# Altium footprint library Flanery.PcbLib: 125 footprints (part 5 of 8)
Each footprint in its own frame and in the unit in brackets; x right, y up, seen from the top. Pads: shape width x height; smd on the part's side, far side on the other; paste and mask are expansions set on the pad; w line width, h text height; cw(c..) or ccw(c..) is an arc to the next point about the centre after c.
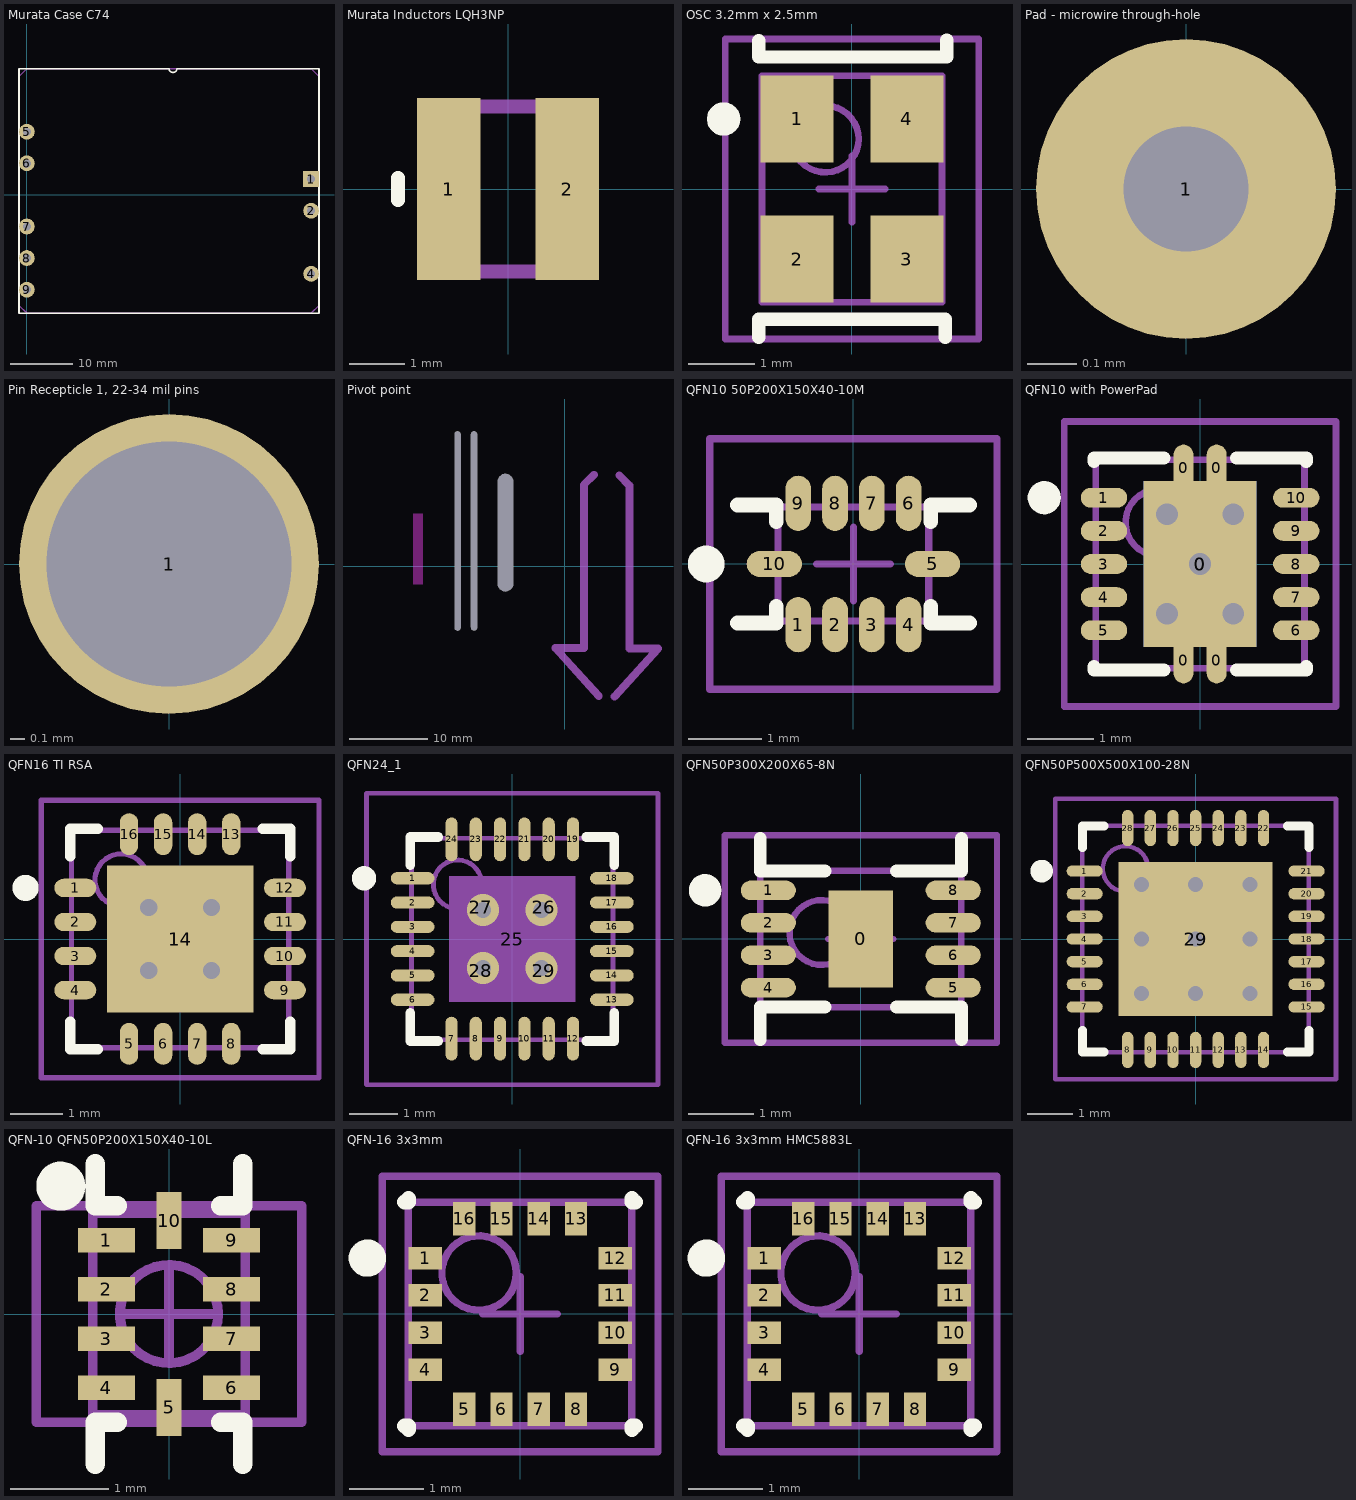
[diagram p4: the footprints below, top view; thin cyan lines are the x and y axes]

## Murata Case C74 [mm]
height 9.652
pads (8):
  rect 2.54x2.54 hole 1.27: 1(45.72,2.54)
  round 2.54 hole 1.27: 2(45.72,-2.54) 4(45.72,-12.7) 5(0,10.16) 6(0,5.08) 7(0,-5.08) 8(0,-10.16) 9(0,-15.24)
Top Overlay:
  lines w0.254: -1.27,-19.05 46.99,-19.05 46.99,20.32 24.13,20.32 cw(c23.495,20.32) 22.86,20.32 -1.27,20.32 -1.27,-19.05
Mechanical 1:
  lines w0.254: -1.27,-17.78 -1.27,19.05 0,20.32 45.72,20.32 46.99,19.05 46.99,-17.78 45.72,-19.05 0,-19.05 -1.27,-17.78
3D body: height 9.65, standoff 0.25, extent -1.27,-18.924 46.991,20.447
3D body: height 0.3, standoff -4.78, extent -0.504,9.653 0.508,10.667
3D body: height 0.3, standoff -4.78, extent -0.506,4.574 0.506,5.588
3D body: height 0.3, standoff -4.78, extent -0.506,-5.588 0.506,-4.574
3D body: height 0.3, standoff -4.78, extent -0.506,-10.666 0.506,-9.652
3D body: height 0.3, standoff -4.78, extent -0.508,-15.748 0.504,-14.734
3D body: height 0.3, standoff -4.78, extent 45.212,2.033 46.224,3.047
3D body: height 0.3, standoff -4.78, extent 45.212,-3.047 46.224,-2.033
3D body: height 0.3, standoff -4.78, extent 45.214,-13.208 46.226,-12.194

## Murata Inductors LQH3NP [mm] "SMD inductors 3x3mm, 1.0-47uH"
height 1.1
pads (2):
  rect 1.15x3.3 smd: 1(-1.075,0) 2(1.075,0)
Top Overlay:
  lines w0.254: -2,-0.2 -2,0.2
Mechanical 1:
  lines w0.254: -1.5,-1.5 -1.5,1.5 1.5,1.5 1.5,-1.5 -1.5,-1.5
3D body: height 1.1, standoff 0, extent -1.499,-1.499 1.499,1.499

## OSC 3.2mm x 2.5mm [mm] "OSC 3.2mm x 2.5mm"
height 1
pads (4):
  rect 1.1x1.3 smd: 1(-0.825,1.05) 2(-0.825,-1.05) 3(0.825,-1.05) 4(0.825,1.05)
Top Overlay:
  circle w0.25: c-1.925,1.05 r0.125
  lines w0.2: -1.4,-2.225 -1.4,-1.956 1.4,-1.956 1.4,-2.225 ; -1.4,2.225 -1.4,1.981 1.422,1.981 1.422,2.235
Mechanical 13:
  circle w0.1: c-0.4,0.75 r0.5
  lines w0.1: -1.35,-1.7 1.35,-1.7 1.35,1.7 -1.35,1.7 -1.35,-1.7
Mechanical 15:
  lines w0.1: -0.5,0 0.5,0 ; 0,-0.5 0,0.5 ; -1.9,-2.25 1.9,-2.25 1.9,2.25 -1.9,2.25 -1.9,-2.25
3D body: height 1, standoff 0, extent -1.35,-1.7 1.35,1.7

## Pad - microwire through-hole [mil]
pads (1):
  round 24 hole 10: 1(0,0)

## PCBComponent_1 - duplicate [mm]

## Pin Recepticle 1, 22-34 mil pins [mil] "Open-bottom pin socket for 22 to 34 mil pins (23-20 AWG)"
height 20
pads (1):
  round 82 hole 67 mask+4: 1(0,0)
3D body: height 20, standoff -80, extent -39,-39 39,39

## Pivot point [mm] "Removable \"spinning top\" pivot point and handle"
pads (3):
  rect 0x0 hole 0.787 slot 25.4 at 90 deg: 0(-13.675,4.5) 0(-11.575,4.5)
  rect 0x0 hole 2 slot 15 at 90 deg: 1(-7.575,4.275)
Keep-Out Layer:
  board cut-out: -19.35,-2.312 -18.15,-2.312 -18.15,6.712 -19.35,6.712
Mechanical 2:
  lines w1: 3.725,11.675 2.425,10.375 2.425,-10.425 -1.225,-10.425 4.325,-16.55 ; 6.325,-16.625 11.875,-10.5 8.225,-10.5 8.225,10.3 6.925,11.6

## QFN10 50P200X150X40-10M [mm] "QFN, 10-Leads, Body 1.5x2.0mm (max), Pitch 0.50mm, IPC Low Density"
height 0.4
pads (10):
  oval 0.35x0.75 smd: 1(-0.75,-0.825) 2(-0.25,-0.825) 3(0.25,-0.825) 4(0.75,-0.825) 6(0.75,0.825) 7(0.25,0.825) 8(-0.25,0.825) 9(-0.75,0.825)
  oval 0.75x0.35 smd: 5(1.075,0) 10(-1.075,0)
Top Overlay:
  circle w0.25: c-2,0 r0.125
  lines w0.2: -1.575,-0.8 -1.05,-0.8 -1.05,-0.575 ; -1.575,0.8 -1.05,0.8 -1.05,0.575 ; 1.05,-0.575 1.05,-0.8 1.575,-0.8 ; 1.05,0.575 1.05,0.8 1.575,0.8
Mechanical 13:
  lines w0.1: -1.025,-0.775 -1.025,0.775 1.025,0.775 1.025,-0.775 -1.025,-0.775
Mechanical 15:
  lines w0.1: -0.5,0 0.5,0 ; 0,-0.5 0,0.5 ; -1.95,-1.7 -1.95,1.7 1.95,1.7 1.95,-1.7 -1.95,-1.7
3D body: height 0.4, standoff 0.05, extent -1.025,-0.775 1.025,0.775

## QFN10 with PowerPad [mm] "TI DRC (S-PVSON-N10)"
height 1
pads (16):
  oval 0.3x0.7 smd: 0(-0.25,-1.45) 0(-0.25,1.45) 0(0.25,-1.45) 0(0.25,1.45)
  rect 1.7x2.5 smd paste-1.5: 0(0,0)
  rect 1.7x2.5 smd far side paste-1.27 mask-1.27: 0(0,0)
  oval 0.7x0.3 smd mask+0.06: 1(-1.45,1) 2(-1.45,0.5) 3(-1.45,0) 4(-1.45,-0.5) 5(-1.45,-1) 6(1.45,-1) 7(1.45,-0.5) 8(1.45,0) 9(1.45,0.5) 10(1.45,1)
via 0.5,-0.75 diameter 0.686 hole 0.33
via -0.5,0.75 diameter 0.686 hole 0.33
via -0.5,-0.75 diameter 0.686 hole 0.33
via 0.5,0.75 diameter 0.686 hole 0.33
via 0,0 diameter 0.686 hole 0.33
Top Overlay:
  circle w0.25: c-2.35,1 r0.125
  lines w0.2: -1.6,-1.55 -1.6,-1.6 -0.55,-1.6 ; -1.6,1.55 -1.6,1.6 -0.55,1.6 ; 0.55,-1.6 1.6,-1.6 1.6,-1.55 ; 0.55,1.6 1.6,1.6 1.6,1.55
Top Paste:
  rectangle: 0.125,0.125 0.8,1.175
  rectangle: -0.8,0.125 -0.125,1.175
  rectangle: -0.8,-1.175 -0.125,-0.125
  rectangle: 0.125,-1.175 0.8,-0.125
Mechanical 13:
  circle w0.1: c-0.625,0.625 r0.5
  lines w0.1: -1.575,-1.575 -1.575,1.575 1.575,1.575 1.575,-1.575 -1.575,-1.575
Mechanical 15:
  lines w0.1: -0.5,0 0.5,0 ; 0,-0.5 0,0.5 ; -2.05,-2.15 -2.05,2.15 2.05,2.15 2.05,-2.15 -2.05,-2.15
3D body: height 1, standoff 0.05, extent -1.575,-1.575 1.575,1.575

## QFN16 TI RSA [mm] "TI's RSA (S-PVQFN-N16)"
height 1
pads (17):
  oval 0.8x0.35 smd: 1(-2,0.975) 2(-2,0.325) 3(-2,-0.325) 4(-2,-0.975) 9(2,-0.975) 10(2,-0.325) 11(2,0.325) 12(2,0.975)
  oval 0.35x0.8 smd: 5(-0.975,-2) 6(-0.325,-2) 7(0.325,-2) 8(0.975,-2) 13(0.975,2) 14(0.325,2) 15(-0.325,2) 16(-0.975,2)
  rect 2.8x2.8 smd paste-10: 14(0,0)
via 0.6,-0.6 diameter 0.66 hole 0.33
via -0.6,-0.6 diameter 0.66 hole 0.33
via 0.6,0.6 diameter 0.66 hole 0.33
via -0.6,0.6 diameter 0.66 hole 0.33
Top Overlay:
  circle w0.25: c-2.95,0.975 r0.125
  lines w0.2: -2.1,-1.575 -2.1,-2.1 -1.575,-2.1 ; -2.1,1.575 -2.1,2.1 -1.575,2.1 ; 1.575,-2.1 2.1,-2.1 2.1,-1.575 ; 1.575,2.1 2.1,2.1 2.1,1.575
Top Paste:
  region: -1.27,1.27 -1.27,0.152 -0.152,0.152 -0.152,1.27
  region: -1.27,-0.152 -1.27,-1.27 -0.152,-1.27 -0.152,-0.152
  region: 0.152,-0.152 0.152,-1.27 1.27,-1.27 1.27,-0.152
  region: 0.152,1.27 0.152,0.152 1.27,0.152 1.27,1.27
Mechanical 13:
  circle w0.1: c-1.125,1.125 r0.5
  lines w0.1: -2.075,-2.075 2.075,-2.075 2.075,2.075 -2.075,2.075 -2.075,-2.075
Mechanical 15:
  lines w0.1: -0.5,0 0.5,0 ; 0,-0.5 0,0.5 ; -2.65,-2.65 2.65,-2.65 2.65,2.65 -2.65,2.65 -2.65,-2.65
3D body: height 1, standoff 0.05, extent -2.075,-2.075 2.075,2.075

## QFN24_1 [mm] "QFN127P600-8N"
height 1
pads (29):
  oval 0.9x0.25 smd: 1(-2.05,1.25) 2(-2.05,0.75) 3(-2.05,0.25) 4(-2.05,-0.25) 5(-2.05,-0.75) 6(-2.05,-1.25) 13(2.05,-1.25) 14(2.05,-0.75) 15(2.05,-0.25) 16(2.05,0.25) 17(2.05,0.75) 18(2.05,1.25)
  oval 0.25x0.9 smd: 7(-1.25,-2.05) 8(-0.75,-2.05) 9(-0.25,-2.05) 10(0.25,-2.05) 11(0.75,-2.05) 12(1.25,-2.05) 19(1.25,2.05) 20(0.75,2.05) 21(0.25,2.05) 22(-0.25,2.05) 23(-0.75,2.05) 24(-1.25,2.05)
  rect 2.6x2.6 on Mech15: 25(0,0)
  rect 1x1 on Top Paste: 26(0.65,0.65) 27(-0.65,0.65) 28(-0.65,-0.65) 29(0.65,-0.65)
via 0.6,-0.6 diameter 0.66 hole 0.33
via -0.6,-0.6 diameter 0.66 hole 0.33
via 0.6,0.6 diameter 0.66 hole 0.33
via -0.6,0.6 diameter 0.66 hole 0.33
Top Overlay:
  circle w0.25: c-3.05,1.25 r0.125
  lines w0.2: -2.1,-1.525 -2.1,-2.1 -1.525,-2.1 ; -2.1,1.525 -2.1,2.1 -1.525,2.1 ; 1.525,-2.1 2.1,-2.1 2.1,-1.525 ; 1.525,2.1 2.1,2.1 2.1,1.525
Mechanical 13:
  circle w0.1: c-1.125,1.125 r0.5
  lines w0.1: -2.075,-2.075 2.075,-2.075 2.075,2.075 -2.075,2.075 -2.075,-2.075
Mechanical 15:
  lines w0.1: -0.5,0 0.5,0 ; 0,-0.5 0,0.5 ; -3,-3 3,-3 3,3 -3,3 -3,-3
3D body: height 1, standoff 0.05, extent -2.075,-2.075 2.075,2.075

## QFN50P300X200X65-8N [mm] "QFN, 8-Leads, Body 2.1x3.1mm (max), Pitch 0.50mm, IPC Medium Density"
height 0.65
pads (9):
  rect 1x1.5 smd: 0(0,0)
  oval 0.85x0.3 smd: 1(-1.425,0.75) 2(-1.425,0.25) 3(-1.425,-0.25) 4(-1.425,-0.75) 5(1.425,-0.75) 6(1.425,-0.25) 7(1.425,0.25) 8(1.425,0.75)
Top Overlay:
  circle w0.25: c-2.4,0.75 r0.125
  lines w0.2: -1.55,-1.55 -1.55,-1.05 -0.55,-1.05 ; -1.55,1.55 -1.55,1.05 -0.55,1.05 ; 0.55,-1.05 1.55,-1.05 1.55,-1.55 ; 0.55,1.05 1.55,1.05 1.55,1.55
Mechanical 13:
  circle w0.1: c-0.6,0.1 r0.5
  lines w0.1: -1.55,-1.05 -1.55,1.05 1.55,1.05 1.55,-1.05 -1.55,-1.05
Mechanical 15:
  lines w0.1: -0.5,0 0.5,0 ; 0,-0.5 0,0.5 ; -2.1,-1.6 -2.1,1.6 2.1,1.6 2.1,-1.6 -2.1,-1.6
3D body: height 0.65, standoff 0.05, extent -1.55,-1.05 1.55,1.05

## QFN50P500X500X100-28N [mm] "QFN, 28-Leads, Body 5.0x5.0mm (max), Pitch 0.50mm, IPC Medium Density"
height 1
pads (29):
  oval 0.8x0.25 smd: 1(-2.45,1.5) 2(-2.45,1) 3(-2.45,0.5) 4(-2.45,0) 5(-2.45,-0.5) 6(-2.45,-1) 7(-2.45,-1.5) 15(2.45,-1.5) 16(2.45,-1) 17(2.45,-0.5) 18(2.45,0) 19(2.45,0.5) 20(2.45,1) 21(2.45,1.5)
  oval 0.25x0.8 smd: 8(-1.5,-2.45) 9(-1,-2.45) 10(-0.5,-2.45) 11(0,-2.45) 12(0.5,-2.45) 13(1,-2.45) 14(1.5,-2.45) 22(1.5,2.45) 23(1,2.45) 24(0.5,2.45) 25(0,2.45) 26(-0.5,2.45) 27(-1,2.45) 28(-1.5,2.45)
  rect 3.4x3.4 smd paste-3: 29(0,0)
via -1.2,1.2 diameter 0.66 hole 0.33
via 0,1.2 diameter 0.66 hole 0.33
via 1.2,1.2 diameter 0.66 hole 0.33
via -1.2,0 diameter 0.66 hole 0.33
via 0,0 diameter 0.66 hole 0.33
via 1.2,0 diameter 0.66 hole 0.33
via -1.2,-1.2 diameter 0.66 hole 0.33
via 0,-1.2 diameter 0.66 hole 0.33
via 1.2,-1.2 diameter 0.66 hole 0.33
Top Overlay:
  circle w0.25: c-3.4,1.5 r0.125
  lines w0.2: -2.5,-2.025 -2.5,-2.5 -2.025,-2.5 ; -2.5,2.025 -2.5,2.5 -2.025,2.5 ; 2.025,-2.5 2.5,-2.5 2.5,-2.025 ; 2.025,2.5 2.5,2.5 2.5,2.025
Top Paste:
  region: 1.702,1.702 1.702,0.127 0.127,0.127 0.127,1.702
  region: -1.702,1.702 -0.127,1.702 -0.127,0.127 -1.702,0.127
  region: -1.702,-1.702 -1.702,-0.127 -0.127,-0.127 -0.127,-1.702
  region: 1.702,-1.702 0.127,-1.702 0.127,-0.127 1.702,-0.127
Mechanical 13:
  circle w0.1: c-1.55,1.55 r0.5
  lines w0.1: -2.5,-2.5 -2.5,2.5 2.5,2.5 2.5,-2.5 -2.5,-2.5
Mechanical 15:
  lines w0.1: -0.5,0 0.5,0 ; 0,-0.5 0,0.5 ; -3.1,-3.1 -3.1,3.1 3.1,3.1 3.1,-3.1 -3.1,-3.1
3D body: height 1, standoff 0.02, extent -2.5,-2.5 2.5,2.5

## QFN-10 QFN50P200X150X40-10L [mm] "QFN, 10-Leads, Body 1.5x2.0mm (max), Pitch 0.50mm, IPC High Density  TI's RUG"
height 0.4
pads (10):
  rect 0.58x0.25 smd mask+0.05: 1(-0.637,0.75) 2(-0.637,0.25) 3(-0.637,-0.25) 4(-0.637,-0.75) 6(0.637,-0.75) 7(0.637,-0.25) 8(0.637,0.25) 9(0.637,0.75)
  rect 0.25x0.58 smd mask+0.05: 5(0,-0.95) 10(0,0.95)
Top Overlay:
  circle w0.25: c-1.1,1.3 r0.125
  lines w0.2: -0.75,-1.525 -0.75,-1.1 -0.525,-1.1 ; -0.75,1.525 -0.75,1.1 -0.525,1.1 ; 0.525,-1.1 0.75,-1.1 0.75,-1.525 ; 0.525,1.1 0.75,1.1 0.75,1.525
Mechanical 13:
  circle w0.1: c0,0 r0.5
  lines w0.1: -0.775,-1.025 0.775,-1.025 0.775,1.025 -0.775,1.025 -0.775,-1.025
Mechanical 15:
  lines w0.1: -0.5,0 0.5,0 ; 0,-0.5 0,0.5 ; -1.35,-1.1 1.35,-1.1 1.35,1.1 -1.35,1.1 -1.35,-1.1
3D body: height 0.4, standoff 0, extent -0.825,-1.075 0.825,1.075

## QFN-16 3x3mm [mm] "QFN127P600-8N"
height 0.9
pads (16):
  rect 0.45x0.3 smd: 1(-1.275,0.75) 2(-1.275,0.25) 3(-1.275,-0.25) 4(-1.275,-0.75) 9(1.275,-0.75) 10(1.275,-0.25) 11(1.275,0.25) 12(1.275,0.75)
  rect 0.3x0.45 smd: 5(-0.75,-1.275) 6(-0.25,-1.275) 7(0.25,-1.275) 8(0.75,-1.275) 13(0.75,1.275) 14(0.25,1.275) 15(-0.25,1.275) 16(-0.75,1.275)
Top Overlay:
  circle w0.25: c-2.05,0.75 r0.125
  lines w0.2: -1.55,-1.5 -1.5,-1.5 -1.5,-1.55 ; -1.55,1.5 -1.5,1.5 -1.5,1.55 ; 1.5,-1.55 1.5,-1.5 1.55,-1.5 ; 1.5,1.55 1.5,1.5 1.55,1.5
Mechanical 13:
  circle w0.1: c-0.55,0.55 r0.5
  lines w0.1: -1.5,-1.5 1.5,-1.5 1.5,1.5 -1.5,1.5 -1.5,-1.5
Mechanical 15:
  lines w0.1: -0.5,0 0.5,0 ; 0,-0.5 0,0.5 ; -1.85,-1.85 1.85,-1.85 1.85,1.85 -1.85,1.85 -1.85,-1.85
3D body: height 0.9, standoff 0.01, extent -1.5,-1.5 1.5,1.5

## QFN-16 3x3mm HMC5883L [mm] "HMC5833L with compass vector graphic"
height 0.9
pads (16):
  rect 0.45x0.3 smd: 1(-1.275,0.75) 2(-1.275,0.25) 3(-1.275,-0.25) 4(-1.275,-0.75) 9(1.275,-0.75) 10(1.275,-0.25) 11(1.275,0.25) 12(1.275,0.75)
  rect 0.3x0.45 smd: 5(-0.75,-1.275) 6(-0.25,-1.275) 7(0.25,-1.275) 8(0.75,-1.275) 13(0.75,1.275) 14(0.25,1.275) 15(-0.25,1.275) 16(-0.75,1.275)
Top Overlay:
  circle w0.25: c-2.05,0.75 r0.125
  lines w0.2: -1.55,-1.5 -1.5,-1.5 -1.5,-1.55 ; -1.55,1.5 -1.5,1.5 -1.5,1.55 ; 1.5,-1.55 1.5,-1.5 1.55,-1.5 ; 1.5,1.55 1.5,1.5 1.55,1.5
Mechanical 13:
  circle w0.1: c-0.55,0.55 r0.5
  lines w0.1: -1.5,-1.5 -1.5,1.5 1.5,1.5 1.5,-1.5 -1.5,-1.5
Mechanical 15:
  lines w0.1: -0.5,0 0.5,0 ; 0,-0.5 0,0.5 ; -1.85,-1.85 -1.85,1.85 1.85,1.85 1.85,-1.85 -1.85,-1.85
3D body: height 0.9, standoff 0.01, extent -1.5,-1.5 1.5,1.5
3D body: height 0.9, standoff 0.5, extent -1.499,-1.499 1.499,1.499